# EAGLE library part MOD_BVCN5103 (library akita)
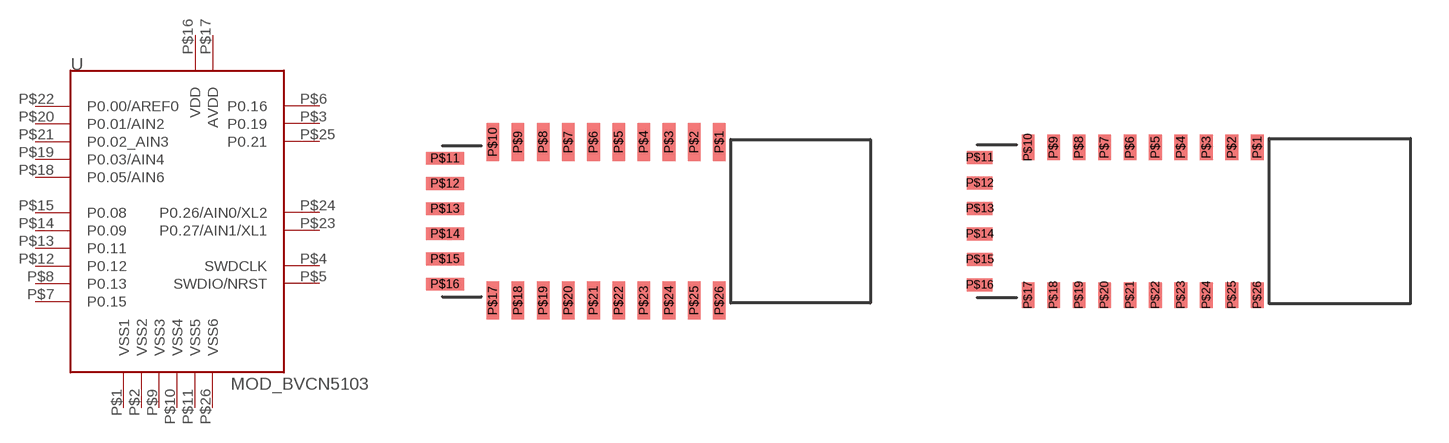
[diagram p99: symbol with the pads of MOD_BVCN5103; footprints MOD_BVCN5103, MOD_BVCN5103NARROW]

Designator prefix U

## MOD_BVCN5103  [MOD_BVCN5103]
P$1  VSS1
P$2  VSS2
P$3  P0.19
P$4  SWDCLK
P$5  SWDIO/NRST
P$6  P0.16
P$7  P0.15
P$8  P0.13
P$9  VSS3
P$10  VSS4
P$11  VSS5
P$12  P0.12
P$13  P0.11
P$14  P0.09
P$15  P0.08
P$16  VDD
P$17  AVDD
P$18  P0.05/AIN6
P$19  P0.03/AIN4
P$20  P0.01/AIN2
P$21  P0.02_AIN3
P$22  P0.00/AREF0
P$23  P0.27/AIN1/XL1
P$24  P0.26/AIN0/XL2
P$25  P0.21
P$26  VSS6

## MOD_BVCN5103NP  [MOD_BVCN5103NARROW]
Pads as for MOD_BVCN5103

## Footprint MOD_BVCN5103 (pad centres in mm)
smd 0.5 x 1.5: P$1 2.5,3.15; P$2 1.5,3.15; P$3 0.5,3.15; P$4 -0.5,3.15; P$5 -1.5,3.15; P$6 -2.5,3.15; P$7 -3.5,3.15; P$8 -4.5,3.15; P$9 -5.5,3.15; P$10 -6.5,3.15; P$17 -6.5,-3.15; P$18 -5.5,-3.15; P$19 -4.5,-3.15; P$20 -3.5,-3.15; P$21 -2.5,-3.15; P$22 -1.5,-3.15; P$23 -0.5,-3.15; P$24 0.5,-3.15; P$25 1.5,-3.15; P$26 2.5,-3.15
smd 1.5 x 0.5: P$11 -8.4,2.5; P$12 -8.4,1.5; P$13 -8.4,0.5; P$14 -8.4,-0.5; P$15 -8.4,-1.5; P$16 -8.4,-2.5

## Footprint MOD_BVCN5103NARROW (pad centres in mm)
smd 0.5 x 1: P$1 2.5,2.9; P$2 1.5,2.9; P$3 0.5,2.9; P$4 -0.5,2.9; P$5 -1.5,2.9; P$6 -2.5,2.9; P$7 -3.5,2.9; P$8 -4.5,2.9; P$9 -5.5,2.9; P$10 -6.5,2.9; P$17 -6.5,-2.9; P$18 -5.5,-2.9; P$19 -4.5,-2.9; P$20 -3.5,-2.9; P$21 -2.5,-2.9; P$22 -1.5,-2.9; P$23 -0.5,-2.9; P$24 0.5,-2.9; P$25 1.5,-2.9; P$26 2.5,-2.9
smd 1 x 0.5: P$11 -8.4,2.5; P$12 -8.4,1.5; P$13 -8.4,0.5; P$14 -8.4,-0.5; P$15 -8.4,-1.5; P$16 -8.4,-2.5